# Altium schematic symbol library SCH - PASSIVES - CAPACITOR_POLARIZED_EEE.SCHLIB: 2 symbols
Pins are listed as number, name and electrical type; pins without a type are passive.

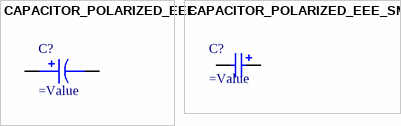
[diagram p0: symbols CAPACITOR_POLARIZED_EEE to CAPACITOR_POLARIZED_EEE_SMALL]

## CAPACITOR_POLARIZED_EEE
designator C?
pins: 1, 2

## CAPACITOR_POLARIZED_EEE_SMALL
designator C?
pins: 1 P, 2 N